# EAGLE library part L3GD20H (library l3gd20h)
L3GD20H: MEMS motion sensor: three-axis digital output gyroscope The L3GD20H is a low-power three-axis angular rate sensor. It includes a sensing element and an IC interface able to provide the measured angular rate to the external world through digital interface (I2C/SPI). The sensing element is manufactured using a dedicated micromachining process developed by ST to produce inertial sensors and actuators on silicon wafers. The IC interface is manufactured using a CMOS process that allows a high level of integration to design a dedicated circuit which is trimmed to better match the sensing element characteristics. The L3GD20H has a full scale of ±245/±500/±2000 dps and is capable of measuring rates with a user selectable bandwidth. The L3GD20H is available in a plastic land grid array (LGA) package and can operate within a temperature range from -40 °C to +85 °C.
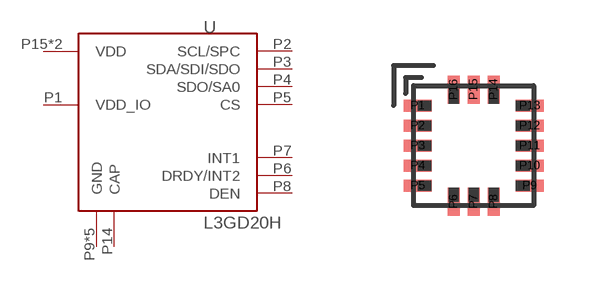
[diagram p0: symbol with the pads of LGA16L; footprint LGA16L]

Designator prefix U

## L3GD20H  [LGA16L]
P1  VDD_IO
P2  SCL/SPC
P3  SDA/SDI/SDO
P4  SDO/SA0
P5  CS
P6  DRDY/INT2
P7  INT1
P8  DEN
P9  GND
P10  GND
P11  GND
P12  GND
P13  GND
P14  CAP
P15  VDD
P16  VDD

## Footprint LGA16L (pad centres in mm)
smd 0.7 x 0.3: P1 -1.4,1; P2 -1.4,0.5; P3 -1.4,0; P4 -1.4,-0.5; P5 -1.4,-1; P9 1.4,-1; P10 1.4,-0.5; P11 1.4,0; P12 1.4,0.5; P13 1.4,1
smd 0.3 x 0.7: P6 -0.5,-1.4; P7 0,-1.4; P8 0.5,-1.4; P14 0.5,1.4; P15 0,1.4; P16 -0.5,1.4